# Altium footprint library PCB - CONNECTOR - USB - ON SHORE TECHNOLOGY USB-A1HSW6.PCBLIB: 1 footprints
Each footprint in its own frame and in the unit in brackets; x right, y up, seen from the top. Pads: shape width x height; smd on the part's side, far side on the other; paste and mask are expansions set on the pad; w line width, h text height; cw(c..) or ccw(c..) is an arc to the next point about the centre after c.
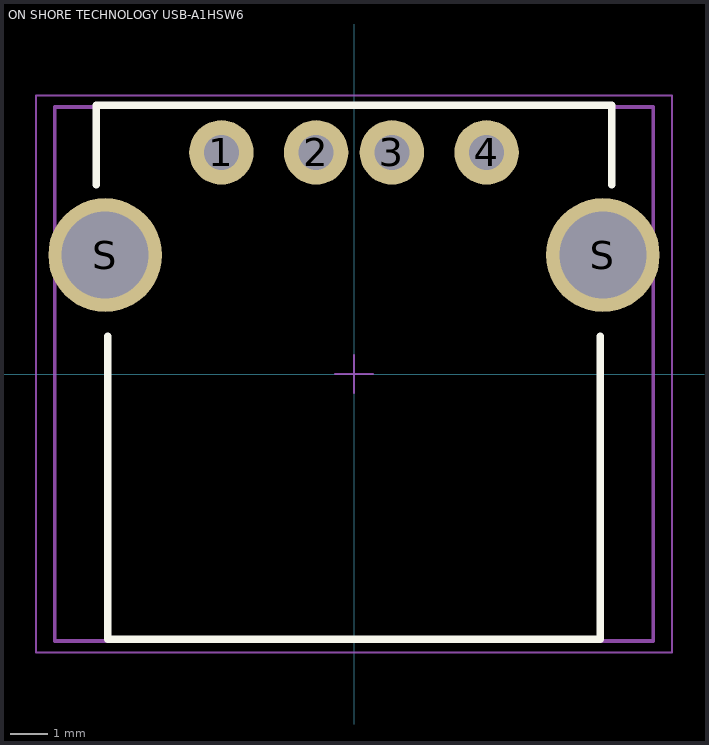
[diagram p0: the footprint, top view; thin cyan lines are the x and y axes]

## ON SHORE TECHNOLOGY USB-A1HSW6 [mm] "USB2.0 TYPEA 4 Pin Pitch 2-2.5mm"
height 7.1
pads (6):
  round 1.7 hole 0.92: 1(-3.5,5.85) 2(-1,5.85) 3(1,5.85) 4(3.5,5.85)
  round 3 hole 2.3: S(-6.57,3.14) S(6.57,3.14)
Top Overlay:
  lines w0.2: -6.8,5 -6.8,7.1 6.8,7.1 6.8,5 ; -6.5,1 -6.5,-7 6.5,-7 6.5,1
Mechanical 13:
  lines w0.1: -7.9,-7.05 -7.9,7.05 7.9,7.05 7.9,-7.05 -7.9,-7.05
Mechanical 15:
  lines w0.05: -0.5,0 0.5,0 ; 0,-0.5 0,0.5 ; -8.4,-7.35 -8.4,7.35 8.4,7.35 8.4,-7.35 -8.4,-7.35
3D body "On Shore - USB-A1HSW6.step": height 7.6, standoff -3.2, extent -7.9,-7.05 7.9,7.05